# Altium schematic symbol library CDCVF2505PWR.SchLib: 1 symbol
Pins are listed as number, name and electrical type; pins without a type are passive.

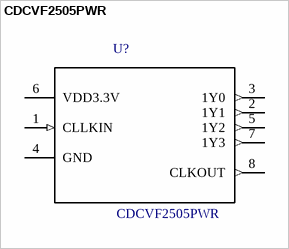
[diagram p0: symbol CDCVF2505PWR]

## CDCVF2505PWR
designator U?
PLL Clock Driver for Synch. DRAM & Gen. Purp. Apps W/Spread Spectrum Compatibility, Power Down Mode 8-TSSOP -40 to 85; MF: Texas Instruments; Package: TSSOP-8 Texas Instruments; MP: CDCVF2505PWR; Availability: Unavailable; SnapEDA_Link: https://www.snapeda.com/parts/CDCVF2505PWR/Texas%20Instruments/view-part/?ref=snap; Price: None; Value: *
footprint *SOP65P640X120-8N
pins: 1 CLLKIN (in), 2 1Y1 (out), 3 1Y0 (out), 4 GND, 5 1Y2 (out), 6 VDD3.3V (power), 7 1Y3 (out), 8 CLKOUT (out)